# EAGLE library part BIU-B280 (library subieduino-lib)
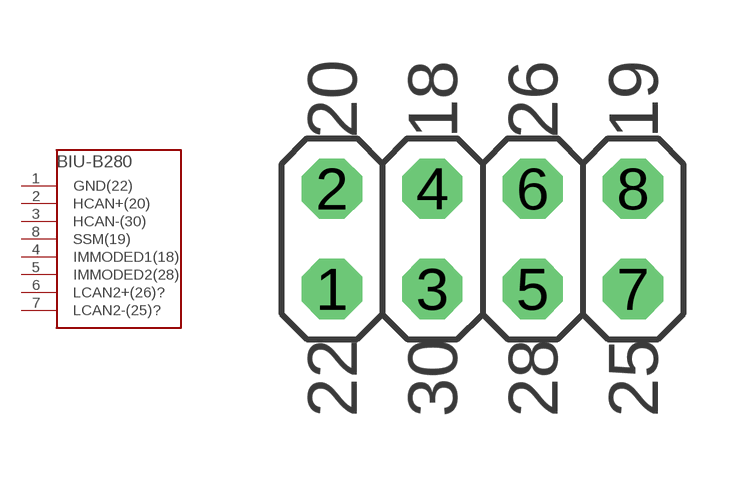
[diagram p1: symbol with the pads of BIU-B280; footprint BIU-B280]

Designator prefix CONN

## BIU-B280  [BIU-B280]
1  GND(22)  pwr
2  HCAN+(20)
3  HCAN-(30)
4  IMMODED1(18)
5  IMMODED2(28)
6  LCAN2+(26)?
7  LCAN2-(25)?
8  SSM(19)

## Footprint BIU-B280 (pad centres in mm)
PIN HEADER
drill 1.016 octagon: 1 -3.81,-1.27; 2 -3.81,1.27; 3 -1.27,-1.27; 4 -1.27,1.27; 5 1.27,-1.27; 6 1.27,1.27; 7 3.81,-1.27; 8 3.81,1.27